# Altium footprint library gumstix.PcbLib: 27 footprints (part 2 of 2)
Each footprint in its own frame and in the unit in brackets; x right, y up, seen from the top. Pads: shape width x height; smd on the part's side, far side on the other; paste and mask are expansions set on the pad; w line width, h text height; cw(c..) or ccw(c..) is an arc to the next point about the centre after c.
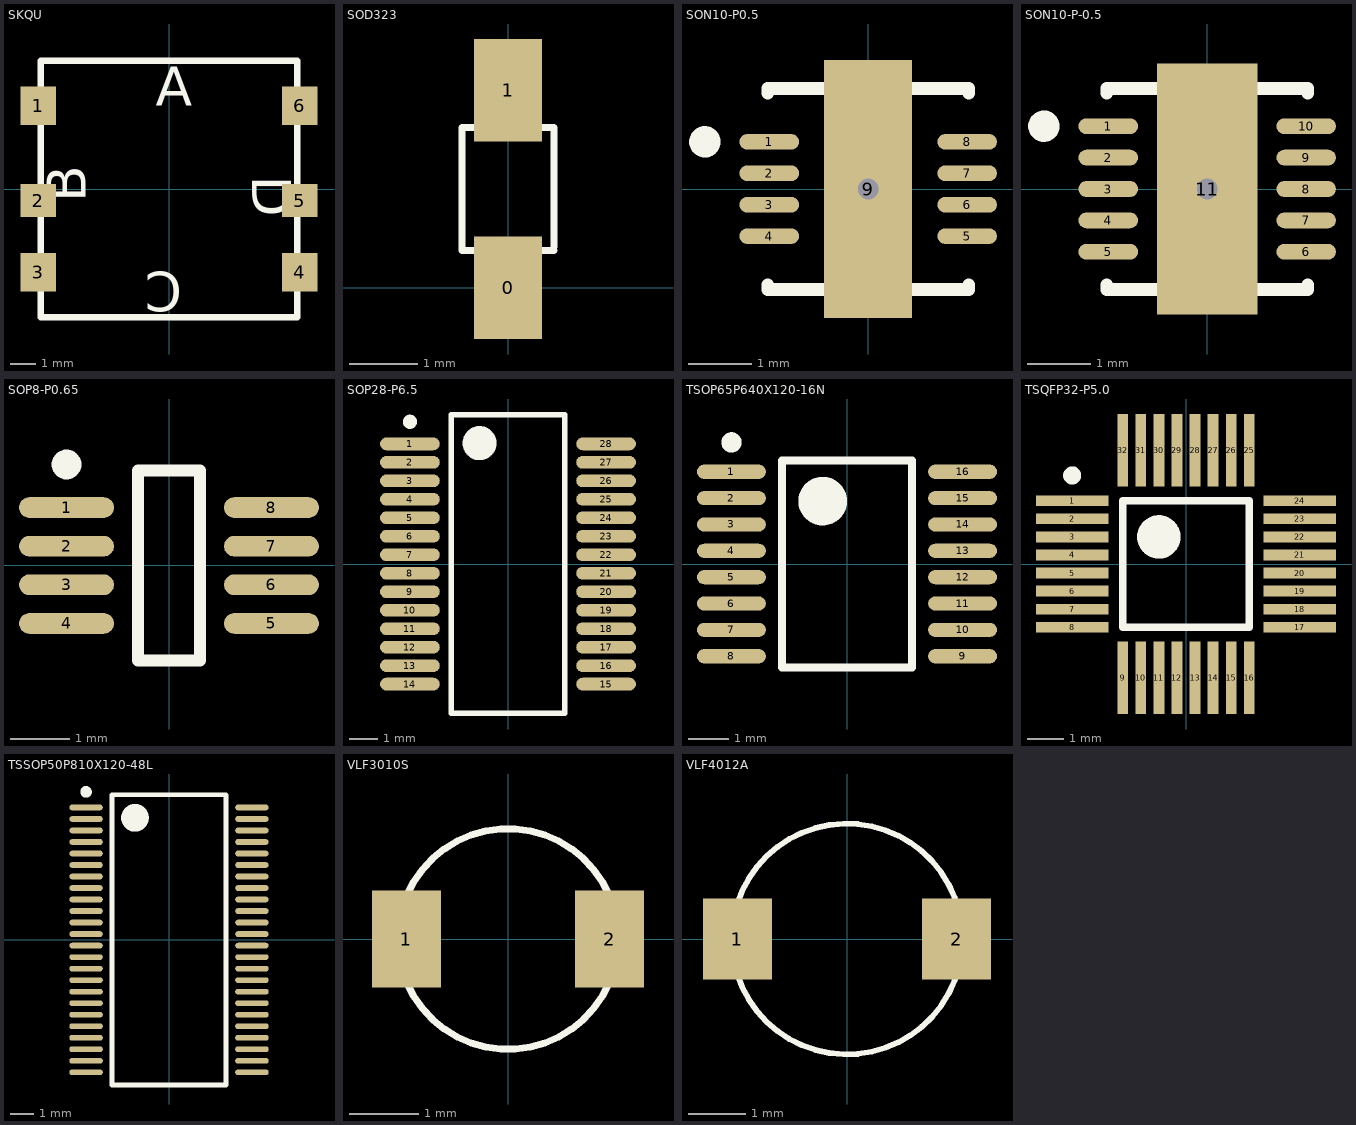
[diagram p1: the footprints below, top view; thin cyan lines are the x and y axes]

## SKQU [mm] "4 way hat switch plus centre push"
pads (6):
  rect 1.4x1.5 smd: 1(-5.1,3.25) 3(-5.1,-3.25) 4(5.1,-3.25) 6(5.1,3.25)
  rect 1.4x1.3 smd: 2(-5.1,-0.45) 5(5.1,-0.45)
Top Overlay:
  lines w0.254: -5,-5 -5,5 5,5 5,-5 -5,-5
  text "D" at 3.25,0.525 h1.52
  text "C" at 0.525,-3.25 h1.52
  text "B" at -3.25,-0.525 h1.52
  text "A" at -0.525,3.25 h1.52

## SOD323 [mm]
height 1.1
pads (2):
  rect 1x1.5 smd: 0(0,0) 1(0,2.9)
Top Overlay:
  lines w0.1: 0.675,0.55 -0.675,0.55 -0.675,2.35 0.675,2.35 0.675,0.6

## SON10-P0.5 [mm]
height 1
pads (9):
  oval 0.95x0.25 smd: 1(-1.575,0.75) 2(-1.575,0.25) 3(-1.575,-0.25) 4(-1.575,-0.75) 5(1.575,-0.75) 6(1.575,-0.25) 7(1.575,0.25) 8(1.575,0.75)
  rect 1.4x4.1 smd: 9(0,0)
via 0,0 diameter 0.66 hole 0.33
Top Overlay:
  circle w0.25: c-2.6,0.75 r0.125
  lines w0.2: -1.6,-1.525 -1.6,-1.6 -0.525,-1.6 ; -1.6,1.525 -1.6,1.6 -0.525,1.6 ; 0.525,-1.6 1.6,-1.6 1.6,-1.525 ; 0.525,1.6 1.6,1.6 1.6,1.525

## SON10-P-0.5 [mm]
height 1
pads (11):
  oval 0.95x0.25 smd: 1(-1.575,1) 2(-1.575,0.5) 3(-1.575,0) 4(-1.575,-0.5) 5(-1.575,-1) 6(1.575,-1) 7(1.575,-0.5) 8(1.575,0) 9(1.575,0.5) 10(1.575,1)
  rect 1.6x4 smd: 11(0,0)
via 0,0 diameter 0.66 hole 0.33
Top Overlay:
  circle w0.25: c-2.6,1 r0.125
  lines w0.2: -1.6,-1.525 -1.6,-1.6 -0.525,-1.6 ; -1.6,1.525 -1.6,1.6 -0.525,1.6 ; 0.525,-1.6 1.6,-1.6 1.6,-1.525 ; 0.525,1.6 1.6,1.6 1.6,1.525

## SOP8-P0.65 [mm]
height 1.3
pads (8):
  oval 1.6x0.35 smd: 1(-1.725,0.975) 2(-1.725,0.325) 3(-1.725,-0.325) 4(-1.725,-0.975) 5(1.725,-0.975) 6(1.725,-0.325) 7(1.725,0.325) 8(1.725,0.975)
Top Overlay:
  circle w0.25: c-1.725,1.7 r0.125
  lines w0.2: -0.525,-1.6 -0.525,1.6 0.525,1.6 0.525,-1.6 -0.525,-1.6

## SOP28-P6.5 [mm] "SOP, 28-Leads, Body 10.5x5.6mm (max), Pitch 0.65mm, IPC Medium Density"
height 2
pads (28):
  oval 2.1x0.45 smd: 1(-3.45,4.225) 2(-3.45,3.575) 3(-3.45,2.925) 4(-3.45,2.275) 5(-3.45,1.625) 6(-3.45,0.975) 7(-3.45,0.325) 8(-3.45,-0.325) 9(-3.45,-0.975) 10(-3.45,-1.625) 11(-3.45,-2.275) 12(-3.45,-2.925) 13(-3.45,-3.575) 14(-3.45,-4.225) 15(3.45,-4.225) 16(3.45,-3.575) 17(3.45,-2.925) 18(3.45,-2.275) 19(3.45,-1.625) 20(3.45,-0.975) 21(3.45,-0.325) 22(3.45,0.325) 23(3.45,0.975) 24(3.45,1.625) 25(3.45,2.275) 26(3.45,2.925) 27(3.45,3.575) 28(3.45,4.225)
Top Overlay:
  circle w0.25: c-3.45,5 r0.125
  circle w0.6: c-1,4.25 r0.3
  lines w0.2: -2,-5.25 -2,5.25 2,5.25 2,-5.25 -2,-5.25

## TSOP65P640X120-16N [mm] "TSOP, 16-Leads, Body 5.1x4.5mm (max), Pitch 0.65mm, IPC Medium Density"
height 1.2
pads (16):
  oval 1.7x0.35 smd: 1(-2.85,2.275) 2(-2.85,1.625) 3(-2.85,0.975) 4(-2.85,0.325) 5(-2.85,-0.325) 6(-2.85,-0.975) 7(-2.85,-1.625) 8(-2.85,-2.275) 9(2.85,-2.275) 10(2.85,-1.625) 11(2.85,-0.975) 12(2.85,-0.325) 13(2.85,0.325) 14(2.85,0.975) 15(2.85,1.625) 16(2.85,2.275)
Top Overlay:
  circle w0.6: c-0.6,1.55 r0.3
  circle w0.25: c-2.85,3 r0.125
  lines w0.2: -1.6,-2.55 1.6,-2.55 1.6,2.55 -1.6,2.55 -1.6,-2.55

## TSQFP32-P5.0 [mm] "TSQFP, 32-Leads, Body 7.1x7.1mm (max), Pitch 0.50mm, IPC Low Density"
height 1.05
pads (32):
  rect 2x0.3 smd: 1(-3.15,1.75) 2(-3.15,1.25) 3(-3.15,0.75) 4(-3.15,0.25) 5(-3.15,-0.25) 6(-3.15,-0.75) 7(-3.15,-1.25) 8(-3.15,-1.75) 17(3.15,-1.75) 18(3.15,-1.25) 19(3.15,-0.75) 20(3.15,-0.25) 21(3.15,0.25) 22(3.15,0.75) 23(3.15,1.25) 24(3.15,1.75)
  rect 0.3x2 smd: 9(-1.75,-3.15) 10(-1.25,-3.15) 11(-0.75,-3.15) 12(-0.25,-3.15) 13(0.25,-3.15) 14(0.75,-3.15) 15(1.25,-3.15) 16(1.75,-3.15) 25(1.75,3.15) 26(1.25,3.15) 27(0.75,3.15) 28(0.25,3.15) 29(-0.25,3.15) 30(-0.75,3.15) 31(-1.25,3.15) 32(-1.75,3.15)
Top Overlay:
  circle w0.25: c-3.15,2.45 r0.125
  circle w0.6: c-0.75,0.75 r0.3
  lines w0.2: -1.75,-1.75 -1.75,1.75 1.75,1.75 1.75,-1.75 -1.75,-1.75

## TSSOP50P810X120-48L [mm] "TSSOP, 48-Leads, Body 12.6x6.2mm (max), Pitch 0.50mm, IPC High Density"
height 1.2
pads (48):
  oval 1.45x0.25 smd: 1(-3.6,5.75) 2(-3.6,5.25) 3(-3.6,4.75) 4(-3.6,4.25) 5(-3.6,3.75) 6(-3.6,3.25) 7(-3.6,2.75) 8(-3.6,2.25) 9(-3.6,1.75) 10(-3.6,1.25) 11(-3.6,0.75) 12(-3.6,0.25) 13(-3.6,-0.25) 14(-3.6,-0.75) 15(-3.6,-1.25) 16(-3.6,-1.75) 17(-3.6,-2.25) 18(-3.6,-2.75) 19(-3.6,-3.25) 20(-3.6,-3.75) 21(-3.6,-4.25) 22(-3.6,-4.75) 23(-3.6,-5.25) 24(-3.6,-5.75) 25(3.6,-5.75) 26(3.6,-5.25) 27(3.6,-4.75) 28(3.6,-4.25) 29(3.6,-3.75) 30(3.6,-3.25) 31(3.6,-2.75) 32(3.6,-2.25) 33(3.6,-1.75) 34(3.6,-1.25) 35(3.6,-0.75) 36(3.6,-0.25) 37(3.6,0.25) 38(3.6,0.75) 39(3.6,1.25) 40(3.6,1.75) 41(3.6,2.25) 42(3.6,2.75) 43(3.6,3.25) 44(3.6,3.75) 45(3.6,4.25) 46(3.6,4.75) 47(3.6,5.25) 48(3.6,5.75)
Top Overlay:
  circle w0.6: c-1.475,5.3 r0.3
  circle w0.25: c-3.6,6.425 r0.125
  lines w0.2: -2.475,-6.3 2.475,-6.3 2.475,6.3 -2.475,6.3 -2.475,-6.3

## VLF3010S [mm] "SMD inductors"
height 1
pads (2):
  rect 1x1.4 smd: 1(-1.475,0) 2(1.475,0)
Top Overlay:
  circle w0.1: c0,0 r1.6

## VLF4012A [mm] "SMD Inductor"
height 1.2
pads (2):
  rect 1.2x1.4 smd: 1(-1.9,0) 2(1.9,0)
Top Overlay:
  circle w0.1: c0,0 r2